# Altium schematic symbol library Modules.SchLib: 15 symbols
Pins are listed as number, name and electrical type; pins without a type are passive.

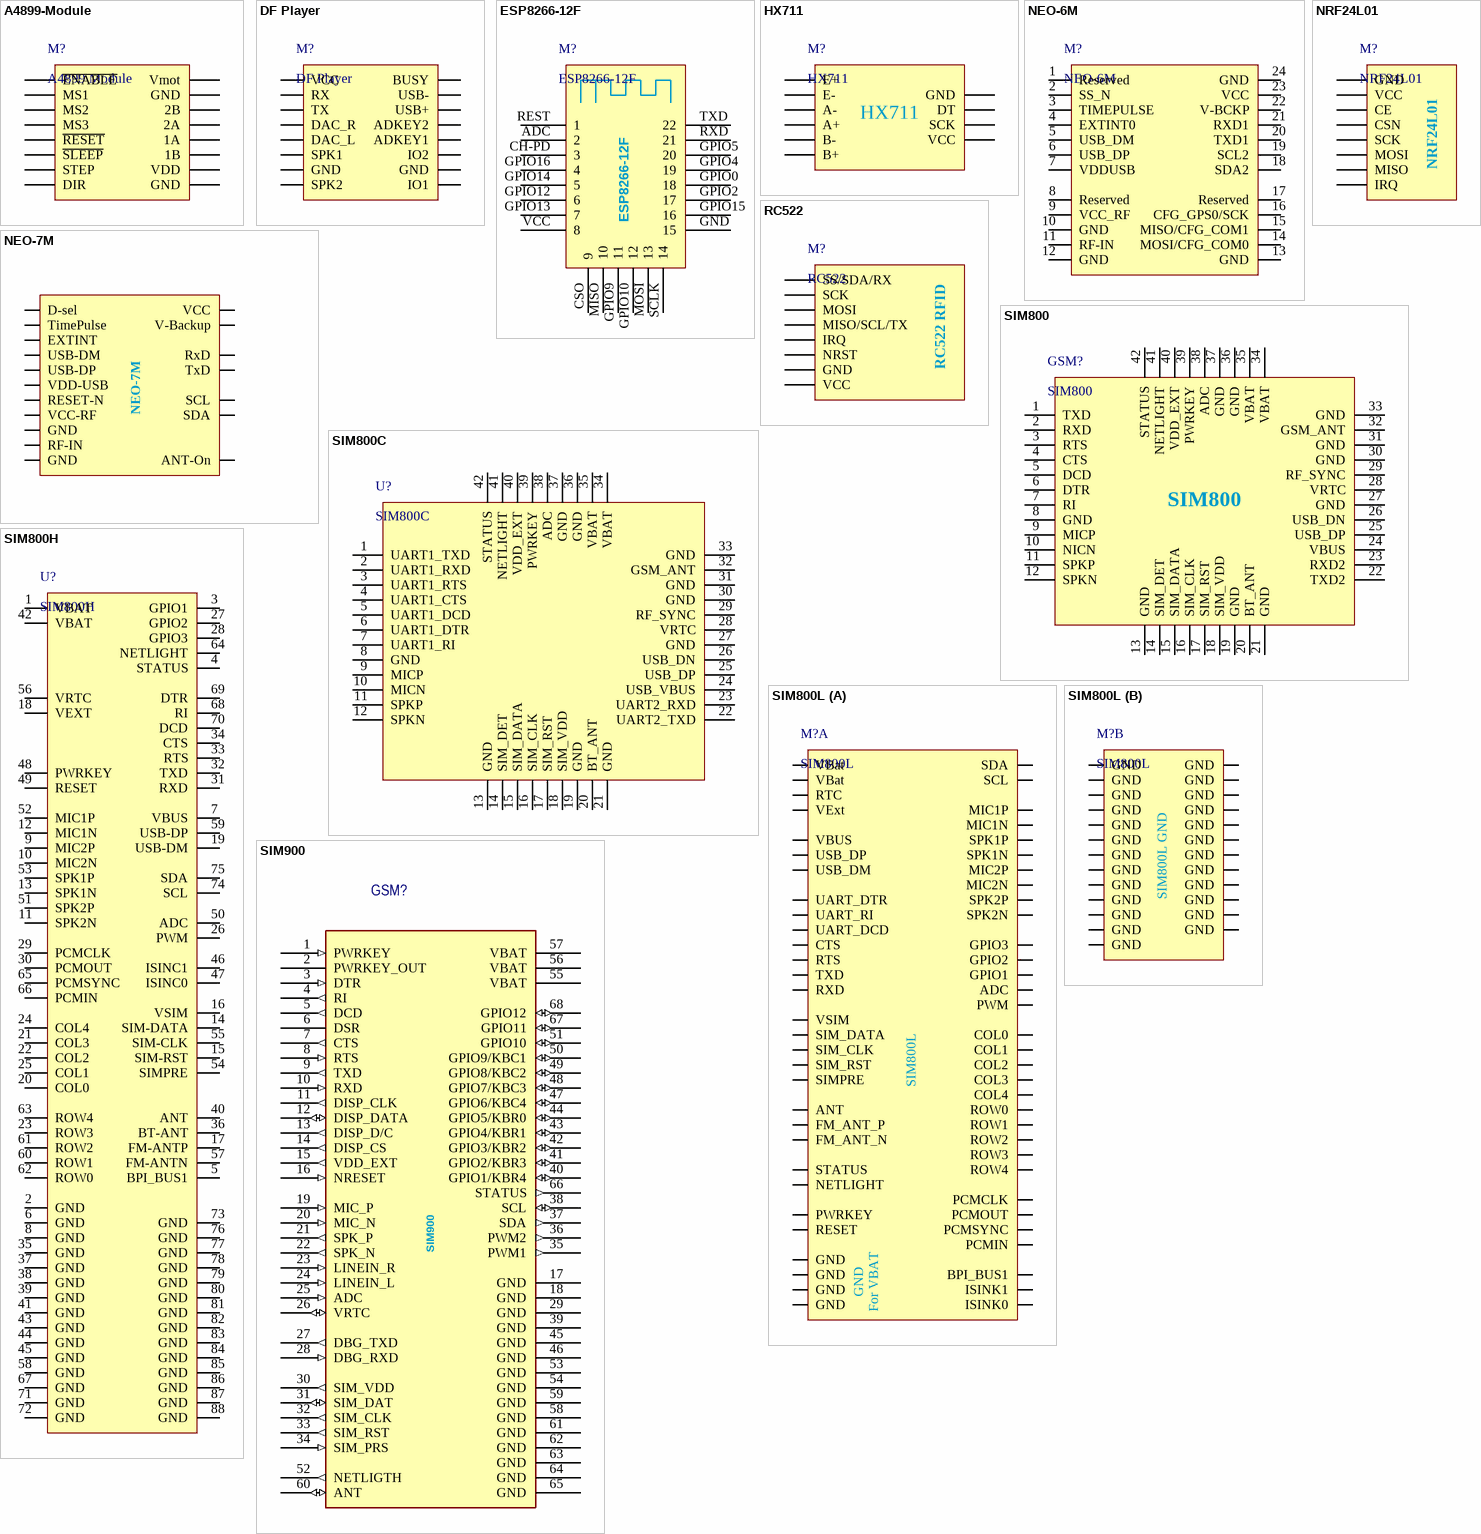
[diagram p0: symbols A4899-Module to SIM900]

## A4899-Module
designator M?, comment A4899 Module
A4899 Stepper Driver Module
footprint A4988
pins: 1 ~{ENABLE}, 2 MS1, 3 MS2, 4 MS3, 5 ~{RESET}, 6 ~{SLEEP}, 7 STEP, 8 DIR, 9 GND, 10 VDD, 11 1B, 12 1A, 13 2A, 14 2B, 15 GND, 16 Vmot

## DF Player
designator M?
DF Player mini MP3 Module
footprint DFPLAYER
pins: 1 VCC, 2 RX, 3 TX, 4 DAC_R, 5 DAC_L, 6 SPK1, 7 GND, 8 SPK2, 9 IO1, 10 GND, 11 IO2, 12 ADKEY1, 13 ADKEY2, 14 USB+, 15 USB-, 16 BUSY

## ESP8266-12F
designator M?
ESP-12F WiFi Module
footprint ESP8266-12F
pins: ADC 2, CH-PD 3, CSO 9, GND 15, GPIO0 18, GPIO2 17, GPIO4 19, GPIO5 20, GPIO9 11, GPIO10 12, GPIO12 6, GPIO13 7, GPIO14 5, GPIO15 16, GPIO16 4, MISO 10, MOSI 13, REST 1, RXD 21, SCLK 14, TXD 22, VCC 8

## HX711
designator M?
Loadcel Module
footprint HX711-board (HX711 Module Board Mount)
footprint HX711-module (HX711 Module on Pin Header)
pins: 1 E+, 2 E-, 3 A-, 4 A+, 5 B-, 6 B+, 7 GND, 8 DT, 9 SCK, 10 VCC

## NEO-6M
designator M?
footprint NEO-6M
pins: 1 Reserved, 2 SS_N, 3 TIMEPULSE, 4 EXTINT0, 5 USB_DM, 6 USB_DP, 7 VDDUSB, 8 Reserved, 9 VCC_RF, 10 GND, 11 RF-IN, 12 GND, 13 GND, 14 MOSI/CFG_COM0, 15 MISO/CFG_COM1, 16 CFG_GPS0/SCK, 17 Reserved, 18 SDA2, 19 SCL2, 20 TXD1, 21 RXD1, 22 V-BCKP, 23 VCC, 24 GND

## NEO-7M
designator J?, comment Jumper
footprint NEO-7M (GNSS modules)
pins: 2 D-sel, 3 TimePulse, 4 EXTINT, 5 USB-DM, 6 USB-DP, 7 VDD-USB, 8 RESET-N, 9 VCC-RF, 10 GND, 11 RF-IN, 12 GND, 13 GND hidden to GND, 14 ANT-On, 18 SDA, 19 SCL, 20 TxD, 21 RxD, 22 V-Backup, 23 VCC, 24 GND hidden to GND

## NRF24L01
designator M?
footprint NRF24L01-HEADER
footprint NRF24L01-Board
pins: 1 GND, 2 VCC, 3 CE, 4 CSN, 5 SCK, 6 MOSI, 7 MISO, 8 IRQ

## RC522
designator M?
RC522 RFID Module
pins: 1 SS/SDA/RX, 2 SCK, 3 MOSI, 4 MISO/SCL/TX, 5 IRQ, 6 NRST, 7 GND, 8 VCC
text: RC522 RFID

## SIM800
designator GSM?
Quad-band GSM/GPRS
footprint LCC110P1570X1760X250-42N
pins: 1 TXD, 2 RXD, 3 RTS, 4 CTS, 5 DCD, 6 DTR, 7 RI, 8 GND, 9 MICP, 10 NICN, 11 SPKP, 12 SPKN, 13 GND, 14 SIM_DET, 15 SIM_DATA, 16 SIM_CLK, 17 SIM_RST, 18 SIM_VDD, 19 GND, 20 BT_ANT, 21 GND, 22 TXD2, 23 RXD2, 24 VBUS, 25 USB_DP, 26 USB_DN, 27 GND, 28 VRTC, 29 RF_SYNC, 30 GND, 31 GND, 32 GSM_ANT, 33 GND, 34 VBAT, 35 VBAT, 36 GND, 37 GND, 38 ADC, 39 PWRKEY, 40 VDD_EXT, 41 NETLIGHT, 42 STATUS

## SIM800C
designator U?
footprint SIM800C
pins: 1 UART1_TXD, 2 UART1_RXD, 3 UART1_RTS, 4 UART1_CTS, 5 UART1_DCD, 6 UART1_DTR, 7 UART1_RI, 8 GND, 9 MICP, 10 MICN, 11 SPKP, 12 SPKN, 13 GND, 14 SIM_DET, 15 SIM_DATA, 16 SIM_CLK, 17 SIM_RST, 18 SIM_VDD, 19 GND, 20 BT_ANT, 21 GND, 22 UART2_TXD, 23 UART2_RXD, 24 USB_VBUS, 25 USB_DP, 26 USB_DN, 27 GND, 28 VRTC, 29 RF_SYNC, 30 GND, 31 GND, 32 GSM_ANT, 33 GND, 34 VBAT, 35 VBAT, 36 GND, 37 GND, 38 ADC, 39 PWRKEY, 40 VDD_EXT, 41 NETLIGHT, 42 STATUS

## SIM800H
designator U?
footprint SIM800H
pins: 1 VBAT, 2 GND, 3 GPIO1, 4 STATUS, 5 BPI_BUS1, 6 GND, 7 VBUS, 8 GND, 9 MIC2P, 10 MIC2N, 11 SPK2N, 12 MIC1N, 13 SPK1N, 14 SIM-DATA, 15 SIM-RST, 16 VSIM, 17 FM-ANTP, 18 VEXT, 19 USB-DM, 20 COL0, 21 COL3, 22 COL2, 23 ROW3, 24 COL4, 25 COL1, 26 PWM, 27 GPIO2, 28 GPIO3, 29 PCMCLK, 30 PCMOUT, 31 RXD, 32 TXD, 33 RTS, 34 CTS, 35 GND, 36 BT-ANT, 37 GND, 38 GND, 39 GND, 40 ANT, 41 GND, 42 VBAT, 43 GND, 44 GND, 45 GND, 46 ISINC1, 47 ISINC0, 48 PWRKEY, 49 RESET, 50 ADC, 51 SPK2P, 52 MIC1P, 53 SPK1P, 54 SIMPRE, 55 SIM-CLK, 56 VRTC, 57 FM-ANTN, 58 GND, 59 USB-DP, 60 ROW1, 61 ROW2, 62 ROW0, 63 ROW4, 64 NETLIGHT, 65 PCMSYNC, 66 PCMIN, 67 GND, 68 RI, 69 DTR, 70 DCD, 71 GND, 72 GND, 73 GND, 74 SCL, 75 SDA, 76 GND, 77 GND, 78 GND, 79 GND, 80 GND, 81 GND, 82 GND, 83 GND, 84 GND, 85 GND, 86 GND, 87 GND, 88 GND

## SIM800L
designator M?
footprint SIM800L
part A pins: 1 VBat, 2 GND, 3 GPIO1, 4 STATUS, 5 BPI_BUS1, 7 VBUS, 9 MIC2P, 10 MIC2N, 11 SPK2N, 12 MIC1N, 13 SPK1N, 14 SIM_DATA, 15 SIM_RST, 16 VSIM, 17 FM_ANT_P, 18 VExt, 19 USB_DM, 20 COL0, 21 COL3, 22 COL2, 23 ROW3, 24 COL4, 25 COL1, 26 PWM, 27 GPIO2, 28 GPIO3, 29 PCMCLK, 30 PCMOUT, 31 RXD, 32 TXD, 33 RTS, 34 CTS, 40 ANT, 42 VBat, 43 GND, 44 GND, 45 GND, 46 ISINK1, 47 ISINK0, 48 PWRKEY, 49 RESET, 50 ADC, 51 SPK2P, 52 MIC1P, 53 SPK1P, 54 SIMPRE, 55 SIM_CLK, 56 RTC, 57 FM_ANT_N, 59 USB_DP, 60 ROW1, 61 ROW2, 62 ROW0, 63 ROW4, 64 NETLIGHT, 65 PCMSYNC, 66 PCMIN, 68 UART_RI, 69 UART_DTR, 70 UART_DCD, 74 SCL, 75 SDA
part B pins: 6 GND, 8 GND, 35 GND, 37 GND, 38 GND, 39 GND, 41 GND, 58 GND, 67 GND, 71 GND, 72 GND, 73 GND, 76 GND, 77 GND, 78 GND, 79 GND, 80 GND, 81 GND, 82 GND, 83 GND, 84 GND, 85 GND, 86 GND, 87 GND, 88 GND
part A text: For VBAT
part B text: SIM800L GND

## SIM900
designator GSM?  (value not drawn)
Quad-band GSM GPRS Module
footprint SIM900
pins: 1 PWRKEY (in), 2 PWRKEY_OUT, 3 DTR (in), 4 RI (out), 5 DCD (out), 6 DSR, 7 CTS (out), 8 RTS (in), 9 TXD (out), 10 RXD (in), 11 DISP_CLK (out), 12 DISP_DATA (io), 13 DISP_D/C (out), 14 DISP_CS (out), 15 VDD_EXT (out), 16 NRESET (in), 17 GND (power), 18 GND (power), 19 MIC_P (in), 20 MIC_N (in), 21 SPK_P (out), 22 SPK_N (out), 23 LINEIN_R (in), 24 LINEIN_L (in), 25 ADC (in), 26 VRTC (io), 27 DBG_TXD (out), 28 DBG_RXD (in), 29 GND (power), 30 SIM_VDD (out), 31 SIM_DAT (io), 32 SIM_CLK (out), 33 SIM_RST (out), 34 SIM_PRS (in), 35 PWM1 (out), 36 PWM2 (out), 37 SDA (out), 38 SCL (io), 39 GND (power), 40 GPIO1/KBR4 (io), 41 GPIO2/KBR3 (io), 42 GPIO3/KBR2 (io), 43 GPIO4/KBR1 (io), 44 GPIO5/KBR0 (io), 45 GND (power), 46 GND (power), 47 GPIO6/KBC4 (io), 48 GPIO7/KBC3 (io), 49 GPIO8/KBC2 (io), 50 GPIO9/KBC1 (io), 51 GPIO10 (io), 52 NETLIGTH (out), 53 GND (power), 54 GND (power), 55 VBAT (power), 56 VBAT (power), 57 VBAT (power), 58 GND (power), 59 GND (power), 60 ANT (io), 61 GND (power), 62 GND (power), 63 GND (power), 64 GND (power), 65 GND (power), 66 STATUS (out), 67 GPIO11 (io), 68 GPIO12 (io)

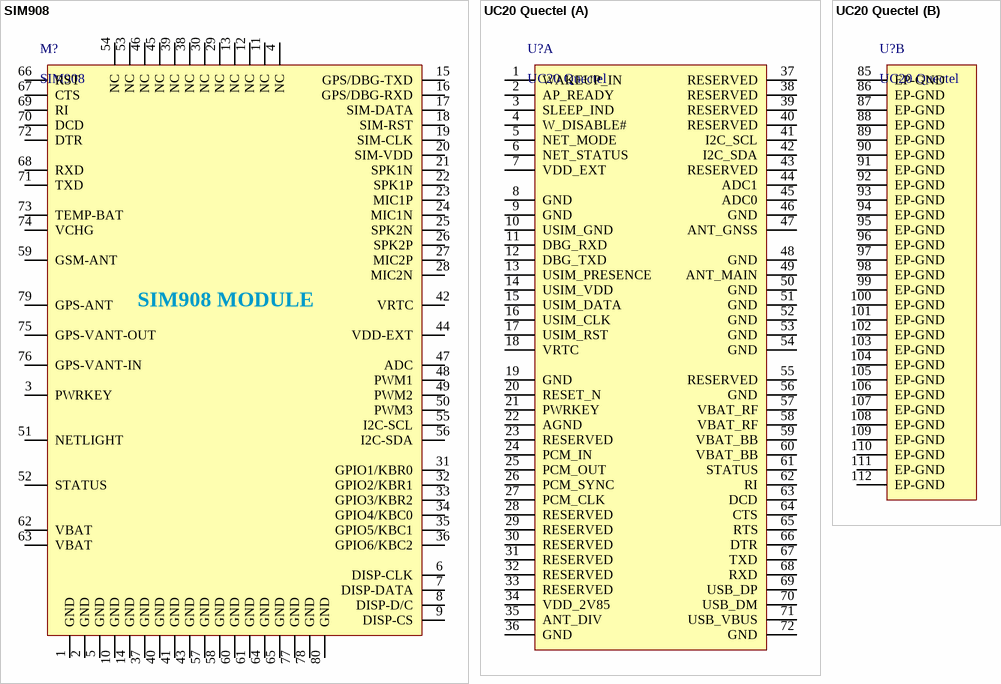
[diagram p1: symbols SIM908 to UC20 Quectel]

## SIM908
designator M?
footprint SIM908
pins: 1 GND, 2 GND, 3 PWRKEY, 4 NC, 5 GND, 6 DISP-CLK, 7 DISP-DATA, 8 DISP-D/C, 9 DISP-CS, 10 GND, 11 NC, 12 NC, 13 NC, 14 GND, 15 GPS/DBG-TXD, 16 GPS/DBG-RXD, 17 SIM-DATA, 18 SIM-RST, 19 SIM-CLK, 20 SIM-VDD, 21 SPK1N, 22 SPK1P, 23 MIC1P, 24 MIC1N, 25 SPK2N, 26 SPK2P, 27 MIC2P, 28 MIC2N, 29 NC, 30 NC, 31 GPIO1/KBR0, 32 GPIO2/KBR1, 33 GPIO3/KBR2, 34 GPIO4/KBC0, 35 GPIO5/KBC1, 36 GPIO6/KBC2, 37 GND, 38 NC, 39 NC, 40 GND, 41 GND, 42 VRTC, 43 GND, 44 VDD-EXT, 45 NC, 46 NC, 47 ADC, 48 PWM1, 49 PWM2, 50 PWM3, 51 NETLIGHT, 52 STATUS, 53 NC, 54 NC, 55 I2C-SCL, 56 I2C-SDA, 57 GND, 58 GND, 59 GSM-ANT, 60 GND, 61 GND, 62 VBAT, 63 VBAT, 64 GND, 65 GND, 66 RST, 67 CTS, 68 RXD, 69 RI, 70 DCD, 71 TXD, 72 DTR, 73 TEMP-BAT, 74 VCHG, 75 GPS-VANT-OUT, 76 GPS-VANT-IN, 77 GND, 78 GND, 79 GPS-ANT, 80 GND
text: SIM908 MODULE

## UC20 Quectel
designator U?
footprint UC20 Quectel
part A pins: 1 WAKEUP_IN, 2 AP_READY, 3 SLEEP_IND, 4 W_DISABLE#, 5 NET_MODE, 6 NET_STATUS, 7 VDD_EXT, 8 GND, 9 GND, 10 USIM_GND, 11 DBG_RXD, 12 DBG_TXD, 13 USIM_PRESENCE, 14 USIM_VDD, 15 USIM_DATA, 16 USIM_CLK, 17 USIM_RST, 18 VRTC, 19 GND, 20 RESET_N, 21 PWRKEY, 22 AGND, 23 RESERVED, 24 PCM_IN, 25 PCM_OUT, 26 PCM_SYNC, 27 PCM_CLK, 28 RESERVED, 29 RESERVED, 30 RESERVED, 31 RESERVED, 32 RESERVED, 33 RESERVED, 34 VDD_2V85, 35 ANT_DIV, 36 GND, 37 RESERVED, 38 RESERVED, 39 RESERVED, 40 RESERVED, 41 I2C_SCL, 42 I2C_SDA, 43 RESERVED, 44 ADC1, 45 ADC0, 46 GND, 47 ANT_GNSS, 48 GND, 49 ANT_MAIN, 50 GND, 51 GND, 52 GND, 53 GND, 54 GND, 55 RESERVED, 56 GND, 57 VBAT_RF, 58 VBAT_RF, 59 VBAT_BB, 60 VBAT_BB, 61 STATUS, 62 RI, 63 DCD, 64 CTS, 65 RTS, 66 DTR, 67 TXD, 68 RXD, 69 USB_DP, 70 USB_DM, 71 USB_VBUS, 72 GND
part B pins: 85 EP-GND, 86 EP-GND, 87 EP-GND, 88 EP-GND, 89 EP-GND, 90 EP-GND, 91 EP-GND, 92 EP-GND, 93 EP-GND, 94 EP-GND, 95 EP-GND, 96 EP-GND, 97 EP-GND, 98 EP-GND, 99 EP-GND, 100 EP-GND, 101 EP-GND, 102 EP-GND, 103 EP-GND, 104 EP-GND, 105 EP-GND, 106 EP-GND, 107 EP-GND, 108 EP-GND, 109 EP-GND, 110 EP-GND, 111 EP-GND, 112 EP-GND